# Altium schematic symbol library MyLibrary.SchLib: 1 symbol
Pins are listed as number, name and electrical type; pins without a type are passive.

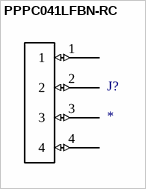
[diagram p0: symbol PPPC041LFBN-RC]

## PPPC041LFBN-RC
designator J?
footprint PPPC041LFBN-RC
pins: 1 (io), 2 (io), 3 (io), 4 (io)